# Altium footprint library DLW5A.PcbLib: 1 footprints
Each footprint in its own frame and in the unit in brackets; x right, y up, seen from the top. Pads: shape width x height; smd on the part's side, far side on the other; paste and mask are expansions set on the pad; w line width, h text height; cw(c..) or ccw(c..) is an arc to the next point about the centre after c.
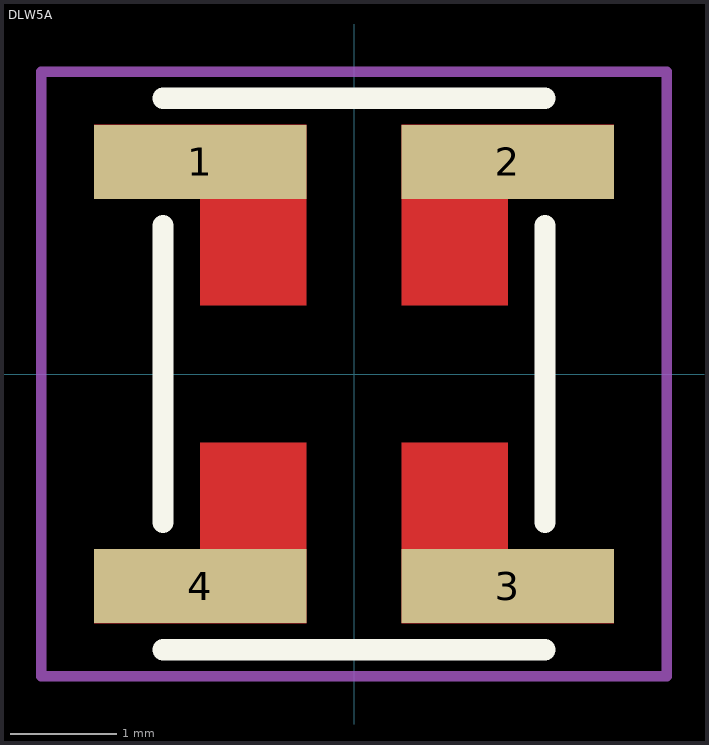
[diagram p0: the footprint, top view; thin cyan lines are the x and y axes]

## DLW5A [mm]
pads (4):
  rect 2x0.7 smd: 1(-1.45,2) 2(1.45,2) 3(1.45,-2) 4(-1.45,-2)
Top Layer:
  region: 1.45,-1.65 2.45,-1.65 2.45,-2.35 0.45,-2.35 0.45,-0.65 1.45,-0.65
  region: 1.45,1.65 2.45,1.65 2.45,2.35 0.45,2.35 0.45,0.65 1.45,0.65
  region: -1.45,-1.65 -2.45,-1.65 -2.45,-2.35 -0.45,-2.35 -0.45,-0.65 -1.45,-0.65
  region: -1.45,1.65 -2.45,1.65 -2.45,2.35 -0.45,2.35 -0.45,0.65 -1.45,0.65
Top Overlay:
  lines w0.2: -1.8,-2.6 1.8,-2.6 ; -1.8,-1.4 -1.8,1.4 ; -1.8,2.6 1.8,2.6 ; 1.8,-1.4 1.8,1.4
Top Courtyard:
  lines w0.1: -2.95,-2.85 2.95,-2.85 2.95,2.85 -2.95,2.85 -2.95,-2.85
3D body "step_temp.STEP": height 2.35, standoff 0, extent -1.8,-2.5 1.8,2.5